# EAGLE library part RKJXV1224 (library jason_eagle6)
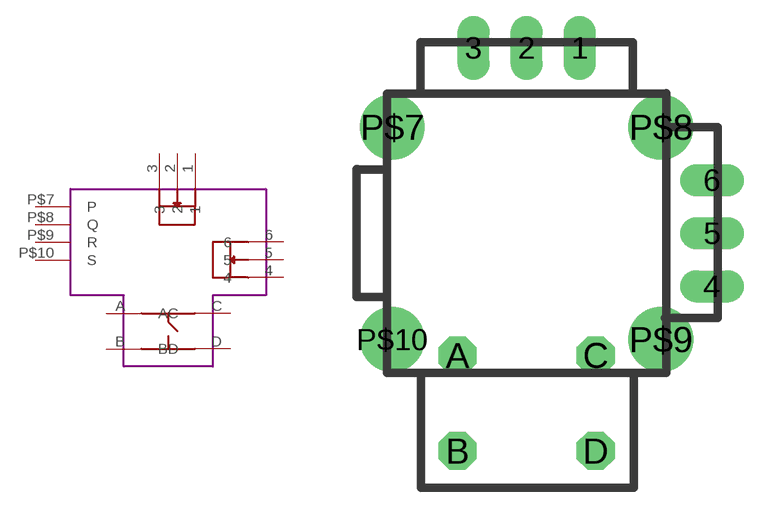
[diagram p37: symbol with the pads of RKJXV1224; footprint RKJXV1224]

Designator prefix -

## RKJXV1224  [RKJXV1224]
1  1
2  2
3  3
4  4
5  5
6  6
A  A
B  B
C  C
D  D
P$7  P
P$8  Q
P$9  R
P$10  S

## Footprint RKJXV1224 (pad centres in mm)
drill 1 pad 1.5 long: 1 2.5,8.73; 2 0,8.73; 3 -2.5,8.73; 4 8.73,-2.5; 5 8.73,0; 6 8.73,2.5
drill 1.2 octagon: A -3.25,-5.75; B -3.25,-10.25; C 3.25,-5.75; D 3.25,-10.25
drill 1.5 pad 3.048: P$7 -6.325,5; P$8 6.325,5; P$9 6.325,-5; P$10 -6.325,-5